# EAGLE library part ILX55 (library sensor)
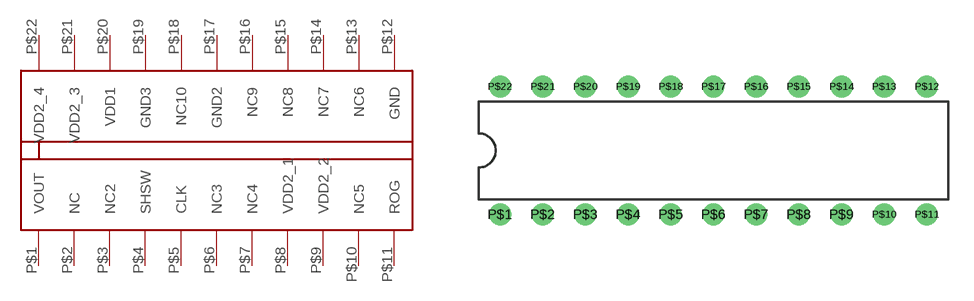
[diagram p0: symbol with the pads of DIL22; footprint DIL22]

Designator prefix -

## ILX55  [DIL22]
P$1  VOUT
P$2  NC
P$3  NC2
P$4  SHSW
P$5  CLK
P$6  NC3
P$7  NC4
P$8  VDD2_1
P$9  VDD2_2
P$10  NC5
P$11  ROG
P$12  GND
P$13  NC6
P$14  NC7
P$15  NC8
P$16  NC9
P$17  GND2
P$18  NC10
P$19  GND3
P$20  VDD1
P$21  VDD2_3
P$22  VDD2_4

## Footprint DIL22 (pad centres in mm)
drill 0.8: P$1 0,0; P$2 2.54,0; P$3 5.08,0; P$4 7.62,0; P$5 10.16,0; P$6 12.7,0; P$7 15.24,0; P$8 17.78,0; P$9 20.32,0; P$10 22.86,0; P$11 25.4,0; P$12 25.4,7.62; P$13 22.86,7.62; P$14 20.32,7.62; P$15 17.78,7.62; P$16 15.24,7.62; P$17 12.7,7.62; P$18 10.16,7.62; P$19 7.62,7.62; P$20 5.08,7.62; P$21 2.54,7.62; P$22 0,7.62